# Altium footprint library S2B-PH-K-S_LF__SN_.PcbLib: 1 footprints
Each footprint in its own frame and in the unit in brackets; x right, y up, seen from the top. Pads: shape width x height; smd on the part's side, far side on the other; paste and mask are expansions set on the pad; w line width, h text height; cw(c..) or ccw(c..) is an arc to the next point about the centre after c.
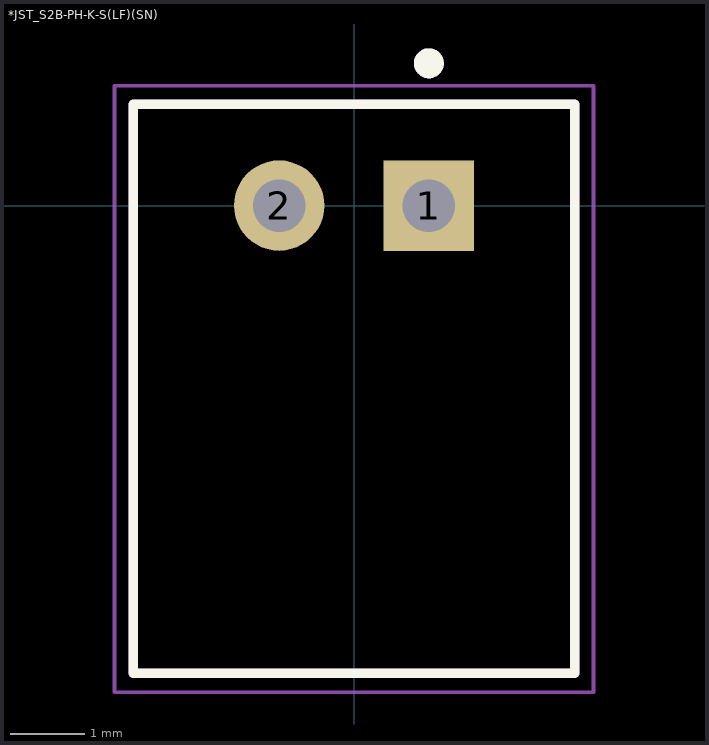
[diagram p0: the footprint, top view; thin cyan lines are the x and y axes]

## *JST_S2B-PH-K-S(LF)(SN) [mm]
pads (2):
  rect 1.208x1.208 hole 0.7: 1(1,0)
  round 1.208 hole 0.7: 2(-1,0)
Top Overlay:
  circle w0.2: c1,1.9 r0.1
  lines w0.127: -2.95,-6.25 2.95,-6.25 2.95,1.35 -2.95,1.35 -2.95,-6.25
Mechanical 4:
  circle w0.2: c1,1.9 r0.1
  circle w0.2: c1,1.9 r0.1
  lines w0.127: -2.95,-6.25 2.95,-6.25 ; -2.95,-6.25 -2.95,1.35 ; -2.95,-6.25 2.95,-6.25 ; -2.95,-6.25 -2.95,1.35 ; -2.95,1.35 2.95,1.35 ; -2.95,1.35 2.95,1.35 ; 2.95,-6.25 2.95,1.35 ; 2.95,-6.25 2.95,1.35
Mechanical 16:
  lines w0.05: -3.2,-6.5 3.2,-6.5 3.2,1.6 -3.2,1.6 -3.2,-6.5